# Altium schematic symbol library 18650holder.SchLib: 1 symbol
Pins are listed as number, name and electrical type; pins without a type are passive.

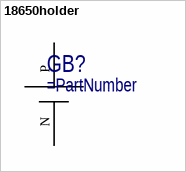
[diagram p0: symbol 18650holder]

## 18650holder
designator GB?
18650 Holder SMT
pins: N, P